# Altium footprint library LTC4095.PcbLib: 1 footprints
Each footprint in its own frame and in the unit in brackets; x right, y up, seen from the top. Pads: shape width x height; smd on the part's side, far side on the other; paste and mask are expansions set on the pad; w line width, h text height; cw(c..) or ccw(c..) is an arc to the next point about the centre after c.
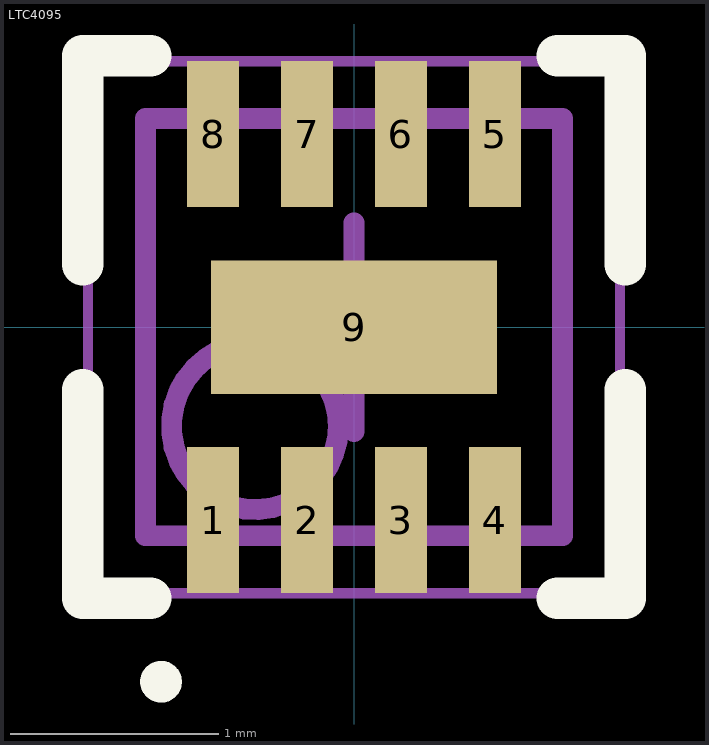
[diagram p0: the footprint, top view; thin cyan lines are the x and y axes]

## LTC4095 [mm] "Standalone USB Li-Ion/Polymer Battery Charger  in 2mm × 2mm DFN"
height 0.8
pads (9):
  rect 0.25x0.7 smd: 1(-0.675,-0.925) 2(-0.225,-0.925) 3(0.225,-0.925) 4(0.675,-0.925) 5(0.675,0.925) 6(0.225,0.925) 7(-0.225,0.925) 8(-0.675,0.925)
  rect 1.37x0.64 smd: 9(0,0)
Top Overlay:
  circle w0.1: c-0.925,-1.7 r0.05
  lines w0.2: -1.3,-0.3 -1.3,-1.3 -0.975,-1.3 ; -1.3,0.3 -1.3,1.3 -0.975,1.3 ; 0.975,-1.3 1.3,-1.3 1.3,-0.3 ; 0.975,1.3 1.3,1.3 1.3,0.3
Mechanical 13:
  circle w0.1: c-0.475,-0.475 r0.4
  lines w0.1: -1,-1 1,-1 1,1 -1,1 -1,-1
Mechanical 15:
  lines w0.05: -1.275,-1.275 1.275,-1.275 1.275,1.275 -1.275,1.275 -1.275,-1.275
  lines w0.1: -0.5,0 0.5,0 ; 0,-0.5 0,0.5
3D body: height 0.8, standoff 0, extent -1,-1 1,1